# Altium schematic symbol library Schlib_TXC.SchLib: 1 symbol
Pins are listed as number, name and electrical type; pins without a type are passive.

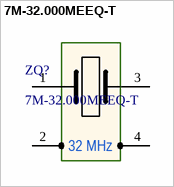
[diagram p0: symbol 7M-32.000MEEQ-T]

## 7M-32.000MEEQ-T
designator ZQ?
Quartz Crystal (Frequency Stability ±10ppm); Manufacturer: Txc Corporation; Load Capacitance: 10pF; Part Number: 7M-32.000MEEQ-T; Package: SMD3225; Frequency Tolerance: ±10ppm; Frequency Stability: ±10ppm
footprint SMD3225
pins: 1 XTAL0, 2 GND (power), 3 XTAL1, 4 GND (power)
text: 32 MHz